# EAGLE library part IFX91041EJV50XUMA1 (library tide_clock)
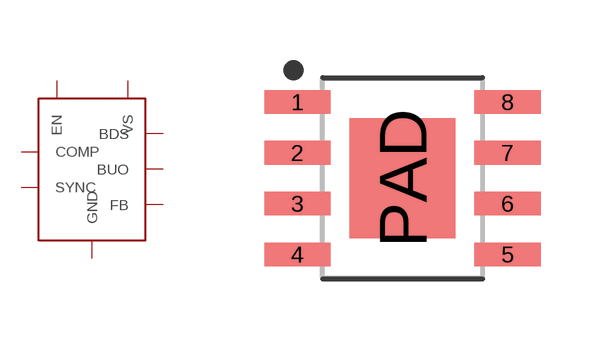
[diagram p0: symbol with the pads of SOIC127P600X170-8; footprint SOIC127P600X170-8]

Designator prefix U

## IFX91041EJV50XUMA1  [SOIC127P600X170-8]
1  SYNC
2  GND
3  COMP
4  FB
5  BDS
6  BUO
7  EN
8  VS
PAD  GND

## Footprint SOIC127P600X170-8 (pad centres in mm)
8-SOIC, 1.27 mm pitch, 6.00 mm span, 4.90 X 3.90 X 1.70 mm body 8-pin SOIC package with 1.27 mm pitch, 6.00 mm span with body size 4.90 X 3.90 X 1.70 mm
smd 1.655 x 0.592: 1 -2.63,1.905; 2 -2.63,0.635; 3 -2.63,-0.635; 4 -2.63,-1.905; 5 2.63,-1.905; 6 2.63,-0.635; 7 2.63,0.635; 8 2.63,1.905
smd 2.65 x 3: PAD 0,0